# EAGLE library part MURATA-DCDC-8THBRICK (library 0HuskyRobotics17-18)
Isolated Module DC DC Converter 1 Output 12V 6A 9V - 36V Input 811-2225-5-ND
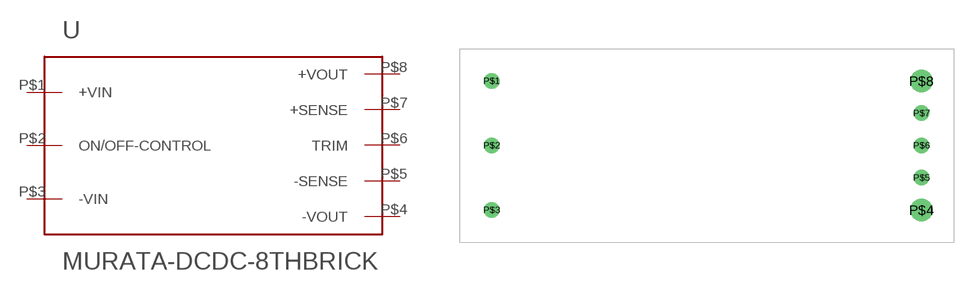
[diagram p1: symbol with the pads of MURATA-8THBRICK; footprint MURATA-8THBRICK]

Designator prefix -

## MURATA-DCDC-8THBRICK  [MURATA-8THBRICK]
P$1  +VIN
P$2  ON/OFF-CONTROL
P$3  -VIN
P$4  -VOUT
P$5  -SENSE
P$6  TRIM
P$7  +SENSE
P$8  +VOUT

## Footprint MURATA-8THBRICK (pad centres in mm)
811-2225-5-ND CONV DC/DC 72W 12V 6A
drill 1.219 pad 1.727: P$1 -25.4,7.62; P$2 -25.4,0; P$3 -25.4,-7.62; P$5 25.4,-3.81; P$6 25.4,0; P$7 25.4,3.81
drill 1.778 pad 2.286: P$4 25.4,-7.62; P$8 25.4,7.62